# EAGLE library part USBLC6-4SC6 (library AIC_Custom)
USBLC6-4SC6 ESD Protection Device (ST Micro)
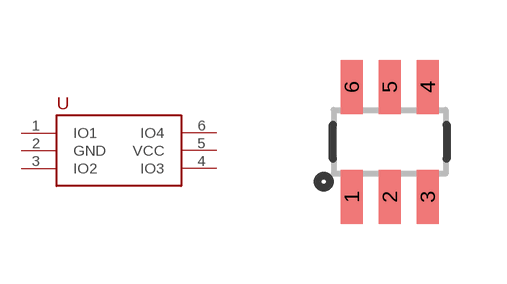
[diagram p10: symbol with the pads of SOT23-6; footprint SOT23-6]

Designator prefix -

## USBLC6-4SC6  [SOT23-6]
1  IO1
2  GND  pwr
3  IO2
4  IO3
5  VCC  pwr
6  IO4

## Footprint SOT23-6 (pad centres in mm)
SOT23-6L, from SparkFun Library
smd 0.55 x 1.35: 1 -0.95,-1.375; 2 0,-1.375; 3 0.95,-1.375; 4 0.95,1.375; 5 0,1.375; 6 -0.95,1.375